# EAGLE library part M80-5101005 (library BrownSpaceEngineering)
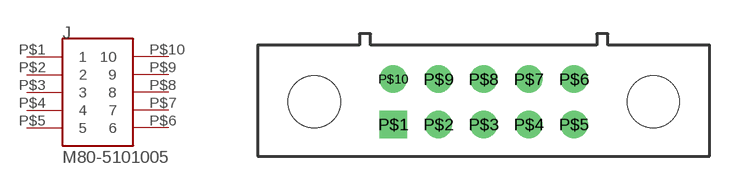
[diagram p16: symbol with the pads of M80-510; footprint M80-510]

Designator prefix J

## M80-5101005  [M80-510]
P$1  1
P$2  2
P$3  3
P$4  4
P$5  5
P$6  6
P$7  7
P$8  8
P$9  9
P$10  10

## Footprint M80-510 (pad centres in mm)
drill 0.7 square: P$1 0,0
drill 0.7: P$2 2,0; P$3 4,0; P$4 6,0; P$5 8,0; P$6 8,2; P$7 6,2; P$8 4,2; P$9 2,2; P$10 0,2
hole 2.3 at 11.5,1
hole 2.3 at -3.5,1